# Altium schematic symbol library ST10F276.SchLib: 1 symbol
Pins are listed as number, name and electrical type; pins without a type are passive.

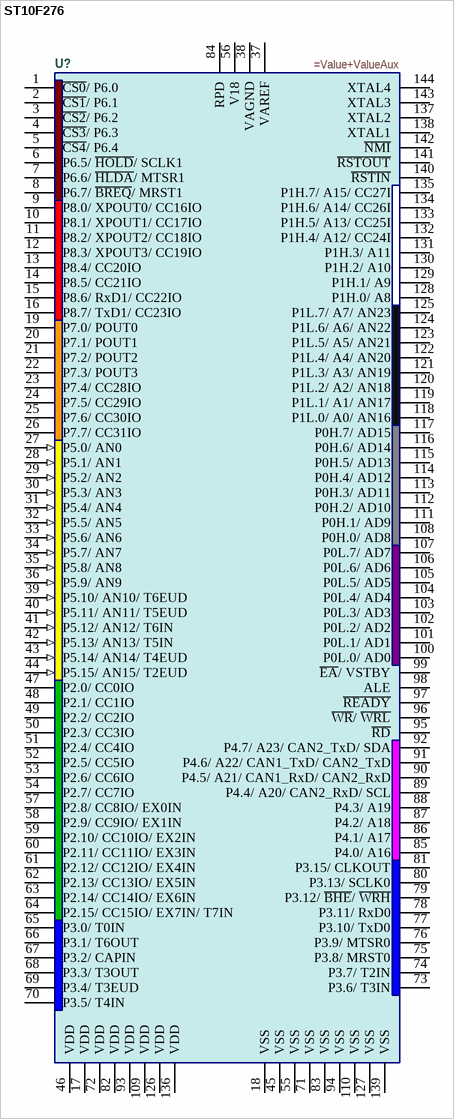
[diagram p0: symbol ST10F276]

## ST10F276
designator U?
=Description
pins: 1 ~{CS0}/ P6.0, 2 ~{CS1}/ P6.1, 3 ~{CS2}/ P6.2, 4 ~{CS3}/ P6.3, 5 ~{CS4}/ P6.4, 6 P6.5/ ~{HOLD}/ SCLK1, 7 P6.6/ ~{HLDA}/ MTSR1, 8 P6.7/ ~{BREQ}/ MRST1, 9 P8.0/ XPOUT0/ CC16IO, 10 P8.1/ XPOUT1/ CC17IO, 11 P8.2/ XPOUT2/ CC18IO, 12 P8.3/ XPOUT3/ CC19IO, 13 P8.4/ CC20IO, 14 P8.5/ CC21IO, 15 P8.6/ RxD1/ CC22IO, 16 P8.7/ TxD1/ CC23IO, 17 VDD (power), 18 VSS (power), 19 P7.0/ POUT0, 20 P7.1/ POUT1, 21 P7.2/ POUT2, 22 P7.3/ POUT3, 23 P7.4/ CC28IO, 24 P7.5/ CC29IO, 25 P7.6/ CC30IO, 26 P7.7/ CC31IO, 27 P5.0/ AN0 (in), 28 P5.1/ AN1 (in), 29 P5.2/ AN2 (in), 30 P5.3/ AN3 (in), 31 P5.4/ AN4 (in), 32 P5.5/ AN5 (in), 33 P5.6/ AN6 (in), 34 P5.7/ AN7 (in), 35 P5.8/ AN8 (in), 36 P5.9/ AN9 (in), 37 VAREF, 38 VAGND, 39 P5.10/ AN10/ T6EUD (in), 40 P5.11/ AN11/ T5EUD (in), 41 P5.12/ AN12/ T6IN (in), 42 P5.13/ AN13/ T5IN (in), 43 P5.14/ AN14/ T4EUD (in), 44 P5.15/ AN15/ T2EUD (in), 45 VSS (power), 46 VDD (power), 47 P2.0/ CC0IO, 48 P2.1/ CC1IO, 49 P2.2/ CC2IO, 50 P2.3/ CC3IO, 51 P2.4/ CC4IO, 52 P2.5/ CC5IO, 53 P2.6/ CC6IO, 54 P2.7/ CC7IO, 55 VSS (power), 56 V18, 57 P2.8/ CC8IO/ EX0IN, 58 P2.9/ CC9IO/ EX1IN, 59 P2.10/ CC10IO/ EX2IN, 60 P2.11/ CC11IO/ EX3IN, 61 P2.12/ CC12IO/ EX4IN, 62 P2.13/ CC13IO/ EX5IN, 63 P2.14/ CC14IO/ EX6IN, 64 P2.15/ CC15IO/ EX7IN/ T7IN, 65 P3.0/ T0IN, 66 P3.1/ T6OUT, 67 P3.2/ CAPIN, 68 P3.3/ T3OUT, 69 P3.4/ T3EUD, 70 P3.5/ T4IN, 71 VSS (power), 72 VDD (power), 73 P3.6/ T3IN, 74 P3.7/ T2IN, 75 P3.8/ MRST0, 76 P3.9/ MTSR0, 77 P3.10/ TxD0, 78 P3.11/ RxD0, 79 P3.12/ ~{BHE}/ ~{WRH}, 80 P3.13/ SCLK0, 81 P3.15/ CLKOUT, 82 VDD (power), 83 VSS (power), 84 RPD, 85 P4.0/ A16, 86 P4.1/ A17, 87 P4.2/ A18, 88 P4.3/ A19, 89 P4.4/ A20/ CAN2_RxD/ SCL, 90 P4.5/ A21/ CAN1_RxD/ CAN2_RxD, 91 P4.6/ A22/ CAN1_TxD/ CAN2_TxD, 92 P4.7/ A23/ CAN2_TxD/ SDA, 93 VDD (power), 94 VSS (power), 95 ~{RD}, 96 ~{WR}/ ~{WRL}, 97 ~{READY}, 98 ALE, 99 ~{EA}/ VSTBY, 100 P0L.0/ AD0, 101 P0L.1/ AD1, 102 P0L.2/ AD2, 103 P0L.3/ AD3, 104 P0L.4/ AD4, 105 P0L.5/ AD5, 106 P0L.6/ AD6, 107 P0L.7/ AD7, 108 P0H.0/ AD8, 109 VDD (power), 110 VSS (power), 111 P0H.1/ AD9, 112 P0H.2/ AD10, 113 P0H.3/ AD11, 114 P0H.4/ AD12, 115 P0H.5/ AD13, 116 P0H.6/ AD14, 117 P0H.7/ AD15, 118 P1L.0/ A0/ AN16, 119 P1L.1/ A1/ AN17, 120 P1L.2/ A2/ AN18, 121 P1L.3/ A3/ AN19, 122 P1L.4/ A4/ AN20, 123 P1L.5/ A5/ AN21, 124 P1L.6/ A6/ AN22, 125 P1L.7/ A7/ AN23, 126 VDD (power), 127 VSS (power), 128 P1H.0/ A8, 129 P1H.1/ A9, 130 P1H.2/ A10, 131 P1H.3/ A11, 132 P1H.4/ A12/ CC24I, 133 P1H.5/ A13/ CC25I, 134 P1H.6/ A14/ CC26I, 135 P1H.7/ A15/ CC27I, 136 VDD (power), 137 XTAL2, 138 XTAL1, 139 VSS (power), 140 ~{RSTIN}, 141 ~{RSTOUT}, 142 ~{NMI}, 143 XTAL3, 144 XTAL4